# Altium schematic symbol library 2SC4672.Schlib: 1 symbol
Pins are listed as number, name and electrical type; pins without a type are passive.

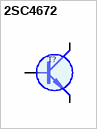
[diagram p0: symbol 2SC4672]

## 2SC4672
designator T?
SOT89     50V 3A 210MHz 25p (2SA1797)
pins: 1 B, 2 C (oc), 3 E (oe)
1 alternate drawing of the same symbol